# EAGLE library part 5992 (library tubes_pmillett)
Beam power tube
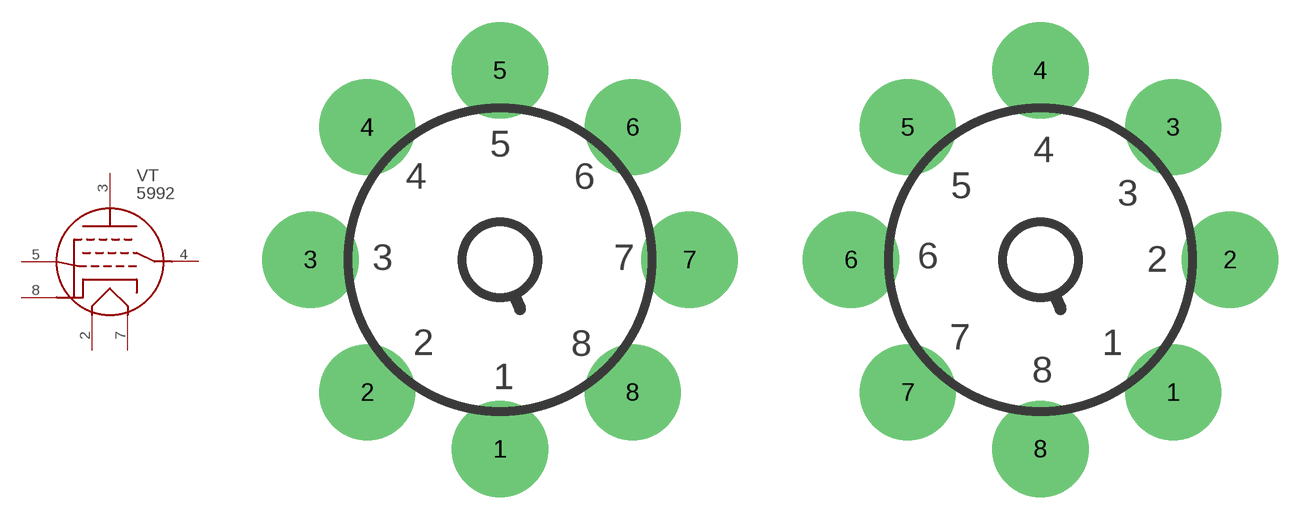
[diagram p78: symbol with the pads of OCTAL_BOTTOM; footprints OCTAL_BOTTOM, OCTAL]

Designator prefix VT

## 5992  [OCTAL_BOTTOM]
2  H1  pas
3  P  pas
4  G2  pas
5  G1  pas
7  H2  pas
8  K_G3  pas

## 5992_TOP  [OCTAL]
Pads as for OCTAL_BOTTOM

## Footprint OCTAL_BOTTOM (pad centres in mm)
TUBE SOCKET, OCTAL, PCB, BOTTOM SIDE
drill 2.54 pad 6.452: 1 0,-12.7; 2 -8.89,-8.89; 3 -12.7,0; 4 -8.89,8.89; 5 0,12.7; 6 8.89,8.89; 7 12.7,0; 8 8.89,-8.89

## Footprint OCTAL (pad centres in mm)
OCTAL TUBE SOCKET, TOP MOUNT
drill 2.54 pad 6.452: 1 8.89,-8.89; 2 12.7,0; 3 8.89,8.89; 4 0,12.7; 5 -8.89,8.89; 6 -12.7,0; 7 -8.89,-8.89; 8 0,-12.7